# EAGLE library part VDMM_171960501 (library Eagle_STEP-DOWN-CONVERTER (rev18c))
MagI³C-VDMM Variable Step Down MicroModule Characteristics LGA <http://katalog.we-online.de/media/images/v2/LGA-6_MicroModule_171960501.jpg> Details see: http://katalog.we-online.de/pm/datasheet/171960501.pdf Created By Yingchun,Shan 2017-12-15 2017 (C) Wurth Elektronik
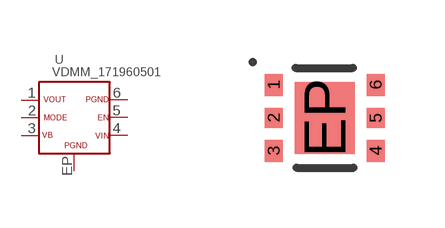
[diagram p10: symbol with the pads of VDMM_171960501; footprint VDMM_171960501]

Designator prefix U

## VDMM_171960501  [VDMM_171960501]
1  VOUT  out
2  MODE
3  FB
4  VIN  in
5  EN
6  PGND
EP  PGND1

## Footprint VDMM_171960501 (pad centres in mm)
smd 0.45 x 0.55: 1 -1.275,0.825; 3 -1.275,-0.825; 4 1.275,-0.825; 6 1.275,0.825
smd 0.45 x 0.5: 2 -1.275,0; 5 1.275,0
smd 1.5 x 1.8: EP 0,0